# EAGLE library part C16_CARTRIDGE (library commodore)
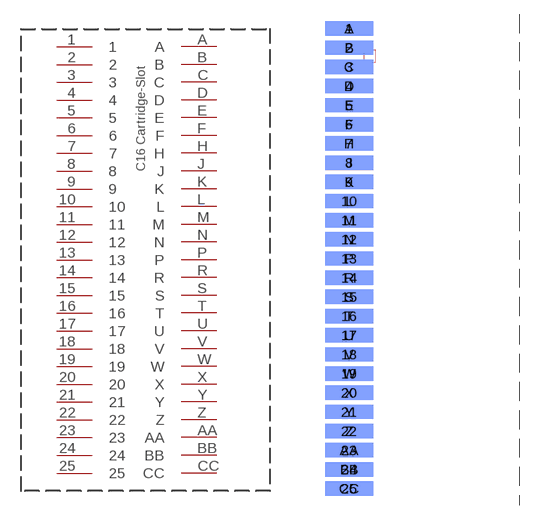
[diagram p39: symbol with the pads of C16CART; footprint C16CART]

Designator prefix -

## C16_CARTRIDGE  [C16CART]
1  1
2  2
3  3
4  4
5  5
6  6
7  7
8  8
9  9
10  10
11  11
12  12
13  13
14  14
15  15
16  16
17  17
18  18
19  19
20  20
21  21
22  22
23  23
24  24
25  25
A  A
AA  AA
B  B
BB  BB
C  C
CC  CC
D  D
E  E
F  F
H  H
J  J
K  K
L  L
M  M
N  N
P  P
R  R
S  S
T  T
U  U
V  V
W  W
X  X
Y  Y
Z  Z

## Footprint C16CART (pad centres in mm)
smd 5.08 x 1.524: 1 -48.514,21.336; 2 -48.514,19.304; 3 -48.514,17.272; 4 -48.514,15.24; 5 -48.514,13.208; 6 -48.514,11.176; 7 -48.514,9.144; 8 -48.514,7.112; 9 -48.514,5.08; 10 -48.514,3.048; 11 -48.514,1.016; 12 -48.514,-1.016; 13 -48.514,-3.048; 14 -48.514,-5.08; 15 -48.514,-7.112; 16 -48.514,-9.144; 17 -48.514,-11.176; 18 -48.514,-13.208; 19 -48.514,-15.24; 20 -48.514,-17.272; 21 -48.514,-19.304; 22 -48.514,-21.336; 23 -48.514,-23.368; 24 -48.514,-25.4; 25 -48.514,-27.432
smd 5.08 x 1.524 bottom: A -48.514,21.336; AA -48.514,-23.368; B -48.514,19.304; BB -48.514,-25.4; C -48.514,17.272; CC -48.514,-27.432; D -48.514,15.24; E -48.514,13.208; F -48.514,11.176; H -48.514,9.144; J -48.514,7.112; K -48.514,5.08; L -48.514,3.048; M -48.514,1.016; N -48.514,-1.016; P -48.514,-3.048; R -48.514,-5.08; S -48.514,-7.112; T -48.514,-9.144; U -48.514,-11.176; V -48.514,-13.208; W -48.514,-15.24; X -48.514,-17.272; Y -48.514,-19.304; Z -48.514,-21.336